# EAGLE library part DIP_SWITCH (library Hippo-PS)
Check availability <https://pricing.snapeda.com/parts/DS04-254-2-04BK-SMT/CUI%20Devices/view-part?ref=eda>
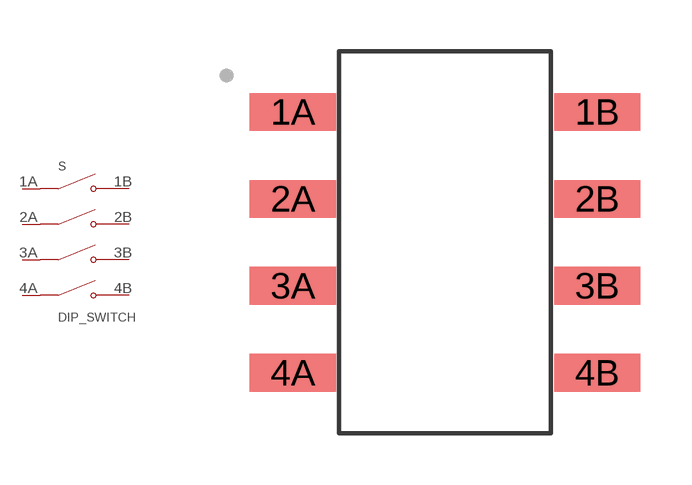
[diagram p3: symbol with the pads of DIP_SWITCH; footprint DIP_SWITCH]

Designator prefix S

## DIP_SWITCH (AVAILABILITY: In Stock; CUI_PURCHASE_URL: https://www.cuidevices.com/product/switches/dip-switches/ds04-254-smt-series?utm_source=snapeda.com&utm_medium=referral&utm_campaign=snapedaBOM; DESCRIPTION: 4 Position, Surface Mount, 2.54 mm Pitch, Flat Slide Actuator, Flat Bottom, SMT Pin, DIP Switch; MF: CUI Devices; MP: DS04-254-2-04BK-SMT; PACKAGE: None; PRICE: None; PURCHASE-URL: https://pricing.snapeda.com/search/part/DS04-254-2-04BK-SMT/?ref=eda)  [DIP_SWITCH]
1A  COM1  pas
1B  NO1  pas
2A  COM2  pas
2B  NO2  pas
3A  COM3  pas
3B  NO3  pas
4A  COM4  pas
4B  NO4  pas

## Footprint DIP_SWITCH (pad centres in mm)
smd 2.516 x 1.1: 1A -4.45,3.81; 1B 4.45,3.81; 2A -4.45,1.27; 2B 4.45,1.27; 3A -4.45,-1.27; 3B 4.45,-1.27; 4A -4.45,-3.81; 4B 4.45,-3.81